# EAGLE library part TPS56X209 (library 1)
TPS56x209 4.5V to 17 V Input, 2-A, 3-A Synchronous Step-Down Voltage Regulator in 6 pin SOT-23
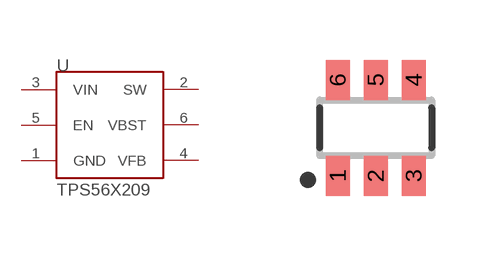
[diagram p57: symbol with the pads of SOT23-6; footprint SOT23-6]

Designator prefix U

## TPS56X209DDC  [SOT23-6]
1  GND
2  SW
3  VIN
4  VFB
5  EN
6  VBST

## Footprint SOT23-6 (pad centres in mm)
smd 0.6 x 1: 1 -0.95,-1.2; 2 0,-1.2; 3 0.95,-1.2; 4 0.95,1.2; 5 0,1.2; 6 -0.95,1.2